# EAGLE library part UTP8SW (library Zoli2_2015-01-28)
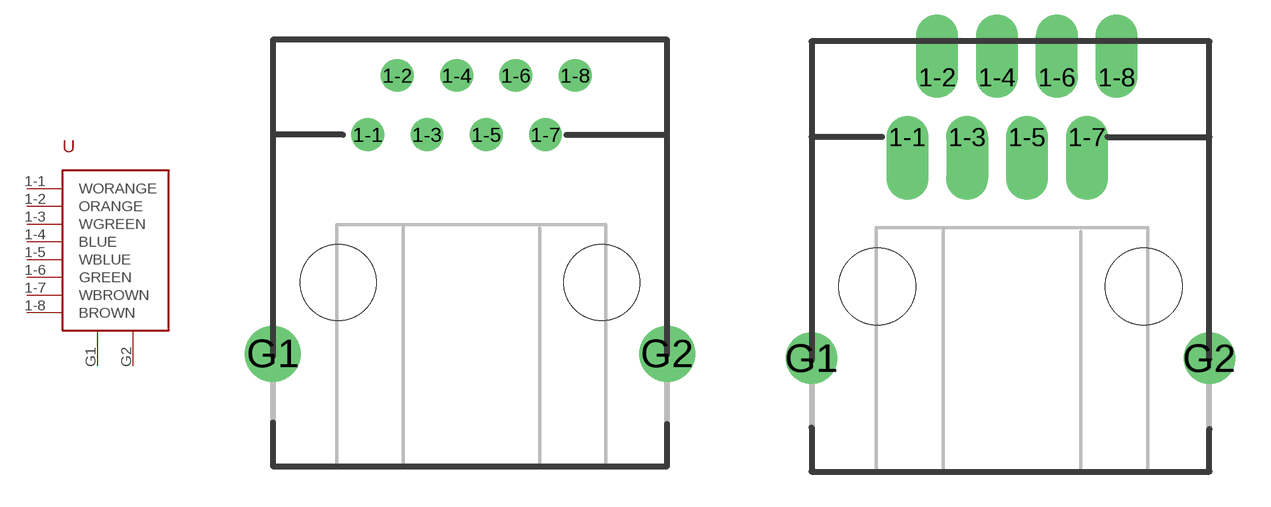
[diagram p33: symbol with the pads of MODJACK8S; footprints MODJACK8S, MODJACK8S_HOME]

Designator prefix -

## UTP8SW  [MODJACK8S]
1-1  WORANGE
1-2  ORANGE
1-3  WGREEN
1-4  BLUE
1-5  WBLUE
1-6  GREEN
1-7  WBROWN
1-8  BROWN
G1  SH
G2  SH

## UTP8SWHOME  [MODJACK8S_HOME]
Pads as for MODJACK8S

## Footprint MODJACK8S (pad centres in mm)
Modular Jack Shielded
drill 0.9 round: 1-1 -4.445,6.35; 1-2 -3.175,8.89; 1-3 -1.905,6.35; 1-4 -0.635,8.89; 1-5 0.635,6.35; 1-6 1.905,8.89; 1-7 3.175,6.35; 1-8 4.445,8.89
drill 1.6 pad 2.184 round: G1 -8.509,-3.048; G2 8.382,-3.048
hole 3.251 at -5.715,0
hole 3.251 at 5.588,0

## Footprint MODJACK8S_HOME (pad centres in mm)
drill 0.5 pad 1.778 offset: 1-1 -4.445,5.08; 1-2 -3.175,7.62; 1-3 -1.905,5.08; 1-4 -0.635,7.62; 1-5 0.635,5.08; 1-6 1.905,7.62; 1-7 3.175,5.08; 1-8 4.445,7.62
drill 0.5 pad 2.184 round: G1 -8.509,-4.318; G2 8.382,-4.318
hole 3.251 at -5.715,-1.27
hole 3.251 at 5.588,-1.27